# EAGLE library part HDSP-523E (library Display 7 seg cat comum)
Display Modules - LED Character and Numeric Red 7-Segment 2 Character Common Cathode 2.05V 20mA 0.732in H x 0.984in W x 0.315in D (18.60mm x 25.00mm x 8.00mm) 18-DIP (0.600in, 15.24mm) Check prices <https://pricing.snapeda.com/parts/HDSP-523E/Broadcom/view-part?ref=eda>
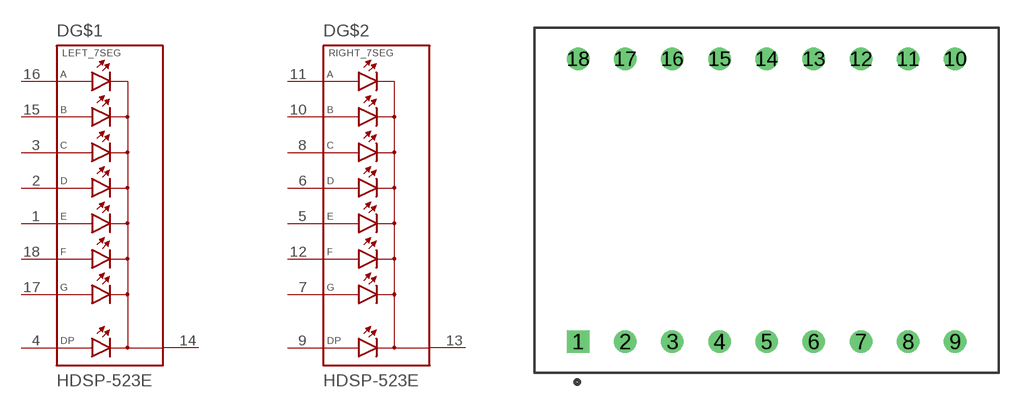
[diagram p0: symbol with the pads of LED_HDSP-523E; footprint LED_HDSP-523E]

Designator prefix D; gates G$1=HDSP-523E_SECTION1 G$2=HDSP-523E_SECTION2

## HDSP-523E (Availability: In Stock; Description: Display Modules - LED Character and Numeric Red 7-Segment 2 Character Common Cathode 2.05V 20mA 0.732 H x 0.984 W x 0.315 D (18.60mm x 25.00mm x 8.00mm) 18-DIP (0.600, 15.24mm); MF: Broadcom; MP: HDSP-523E; Package: DIP-18 Avago; Price: None; Purchase-URL: https://pricing.snapeda.com/search/part/HDSP-523E/?ref=eda)  [LED_HDSP-523E]
1  G$1:E_1  pas
2  G$1:D_1  pas
3  G$1:C_1  pas
4  G$1:DP_1  pas
5  G$2:E_2  pas
6  G$2:D_2  pas
7  G$2:G_2  pas
8  G$2:C_2  pas
9  G$2:DP_2  pas
10  G$2:B_2  pas
11  G$2:A_2  pas
12  G$2:F_2  pas
13  G$2:COM_2  pas
14  G$1:COM_1  pas
15  G$1:B_1  pas
16  G$1:A_1  pas
17  G$1:G_1  pas
18  G$1:F_1  pas

## Footprint LED_HDSP-523E (pad centres in mm)
drill 0.7 square: 1 -10.16,-7.62
drill 0.7: 2 -7.62,-7.62; 3 -5.08,-7.62; 4 -2.54,-7.62; 5 0,-7.62; 6 2.54,-7.62; 7 5.08,-7.62; 8 7.62,-7.62; 9 10.16,-7.62; 10 10.16,7.62; 11 7.62,7.62; 12 5.08,7.62; 13 2.54,7.62; 14 0,7.62; 15 -2.54,7.62; 16 -5.08,7.62; 17 -7.62,7.62; 18 -10.16,7.62